# Altium footprint library ONSEMI_SMB.PcbLib: 1 footprints
Each footprint in its own frame and in the unit in brackets; x right, y up, seen from the top. Pads: shape width x height; smd on the part's side, far side on the other; paste and mask are expansions set on the pad; w line width, h text height; cw(c..) or ccw(c..) is an arc to the next point about the centre after c.
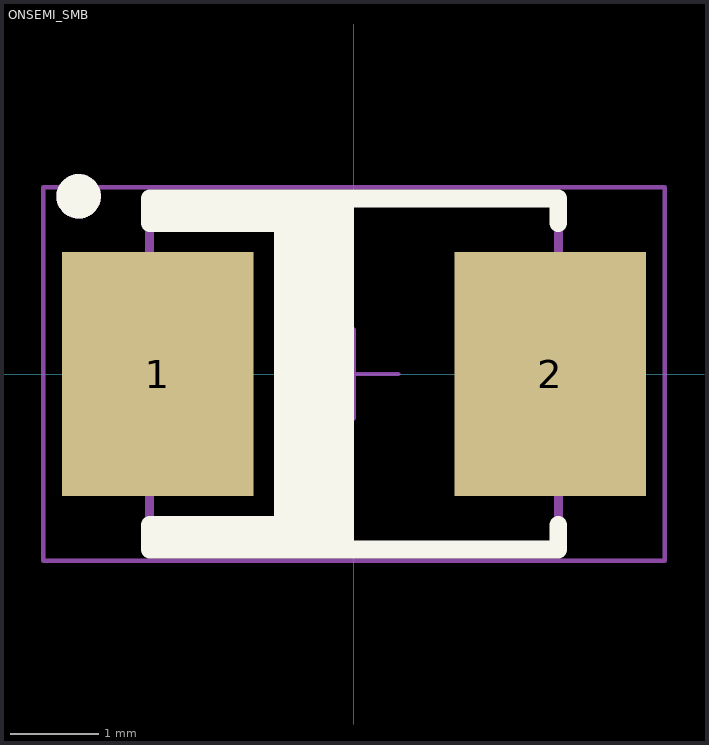
[diagram p0: the footprint, top view; thin cyan lines are the x and y axes]

## ONSEMI_SMB [mil] "ONSEMI_SMB"
height 97.24
pads (2):
  rect 85x107.99 smd: 1(-87.01,0) 2(87.01,0)
Top Overlay:
  circle w11.81: c-122.05,78.74 r3.94
  rectangle: -31.5,-77.76 0,77.76
  rectangle: -90.55,-77.76 -31.5,-66.93
  rectangle: -90.55,66.93 -31.5,77.76
  lines w7.87: -31.5,-77.76 -31.5,-66.93 ; -31.5,77.76 -31.5,66.93 ; 90.55,-66.93 90.55,-77.76 -90.55,-77.76 -90.55,-66.93 -31.5,-66.93 ; 90.55,66.93 90.55,77.76 -90.55,77.76 -90.55,66.93 -31.5,66.93 ; -31.5,-66.93 -31.5,66.93
Top 3D Body:
  circle w11.81: c-122.05,78.74 r3.94
  lines w3.94: -90.55,-77.76 90.55,-77.76 90.55,77.76 -90.55,77.76 -90.55,-77.76
Top Courtyard (Mech15):
  lines w1.97: -19.68,0 19.69,0 ; 0,-19.69 0,19.68 ; -137.8,-82.68 137.8,-82.68 137.8,82.68 -137.8,82.68 -137.8,-82.68
3D body "ONSEMI_SMB.STEP": height 90.94, standoff 0, extent -107.09,-70.08 107.09,70.08